# EAGLE library part USBUF02W6 (library Filters)
FILTER RC(PI) 22 OHM/47PF SMD Manufacturer's datasheet <https://www.st.com/content/ccc/resource/technical/document/datasheet/19/ec/30/05/43/a9/45/e1/CD00002046.pdf/files/CD00002046.pdf/jcr:content/translations/en.CD00002046.pdf>
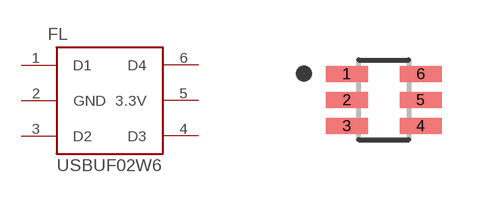
[diagram p0: symbol with the pads of SOT-363; footprint SOT-363]

Designator prefix FL

## USBUF02W6 (CREATED_BY: PCBLayout.com; DIGIKEY_PARTNO: 497-3743-2-ND; MANUFACTUERER: STMicroelectronics; MPN: USBUF02W6; PACKAGE: SOT-363)  [SOT-363]
1  D1  pas
2  GND  pwr
3  D2  pas
4  D3  pas
5  3.3V  pwr
6  D4  out

## Footprint SOT-363 (pad centres in mm)
smd 1.05 x 0.4: 1 -0.925,0.65; 2 -0.925,0; 3 -0.925,-0.65; 4 0.925,-0.65; 5 0.925,0; 6 0.925,0.65